# EAGLE library part PAM2808 (library koch)
310030211
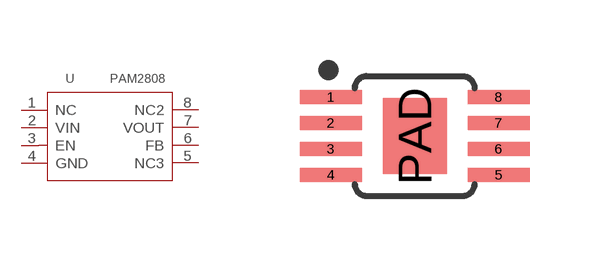
[diagram p6: symbol with the pads of SOT-08; footprint SOT-08]

Designator prefix U

## PAM2808 (MPN: TPS2051BDGN; VALUE: TPS2051BDGN-MSOP8)  [SOT-08]
1  NC  nc
2  VIN  in
3  EN  in
4  GND  in
5  NC3  nc
6  FB  in
7  VOUT  out
8  NC2  nc

## Footprint SOT-08 (pad centres in mm)
smd 1.55 x 0.35: 1 -2.1,0.975; 2 -2.1,0.325; 3 -2.1,-0.325; 4 -2.1,-0.975; 5 2.1,-0.975; 6 2.1,-0.325; 7 2.1,0.325; 8 2.1,0.975
smd 1.6 x 1.9: PAD 0,0